# EAGLE library part MAX11639 (library 000_ICS)
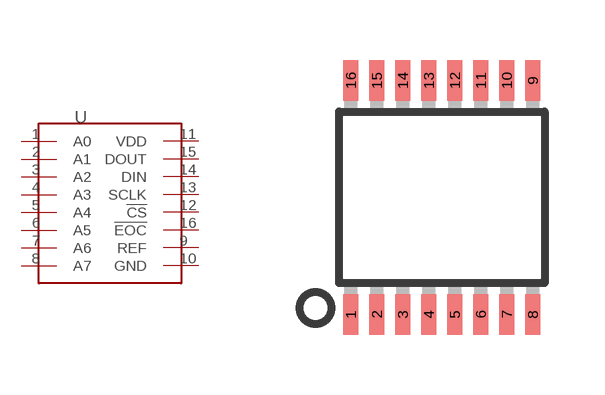
[diagram p7: symbol with the pads of SSOP16; footprint SSOP16]

Designator prefix -

## MAX11639 (1PC: 2.26; DIGIKEY: MAX11639EEE+-ND; HEIGHT: 2)  [SSOP16]
1  A0
2  A1
3  A2
4  A3
5  A4
6  A5
7  A6
8  A7
9  REF
10  GND
11  VDD
12  !CS
13  SCLK
14  DIN
15  DOUT
16  !EOC

## Footprint SSOP16 (pad centres in mm)
Small Shrink Outline Package
smd 0.381 x 1.016: 1 -2.275,-2.925; 2 -1.625,-2.925; 3 -0.975,-2.925; 4 -0.325,-2.925; 5 0.325,-2.925; 6 0.975,-2.925; 7 1.625,-2.925; 8 2.275,-2.925; 9 2.275,2.925; 10 1.625,2.925; 11 0.975,2.925; 12 0.325,2.925; 13 -0.325,2.925; 14 -0.975,2.925; 15 -1.625,2.925; 16 -2.275,2.925